# EAGLE library part 181-015-213 (library con-subd)
CONN DSUB HD RCPT 15POS R/A
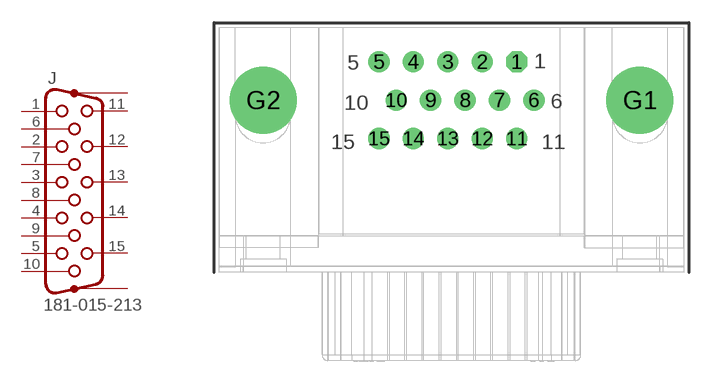
[diagram p101: symbol with the pads of 181-015-213; footprint 181-015-213]

Designator prefix J

## 181-015-213  [181-015-213]
1  1  pas
2  2  pas
3  3  pas
4  4  pas
5  5  pas
6  6  pas
7  7  pas
8  8  pas
9  9  pas
10  10  pas
11  11  pas
12  12  pas
13  13  pas
14  14  pas
15  15  pas
G1  G1  pas
G2  G2  pas

## Footprint 181-015-213 (pad centres in mm)
DSUB HD RCPT 15-POS R/A
drill 0.9 octagon: 1 4.329,13.97
drill 0.9: 2 2.043,13.97; 3 -0.243,13.97; 4 -2.529,13.97; 5 -4.815,13.97; 6 5.472,11.43; 7 3.186,11.43; 8 0.9,11.43; 9 -1.386,11.43; 10 -3.672,11.43; 11 4.329,8.89; 12 2.043,8.89; 13 -0.243,8.89; 14 -2.529,8.89; 15 -4.815,8.89
drill 3.048 pad 4.445: G1 12.497,11.43; G2 -12.497,11.43